# EAGLE library part VS1011E (library vlsi)
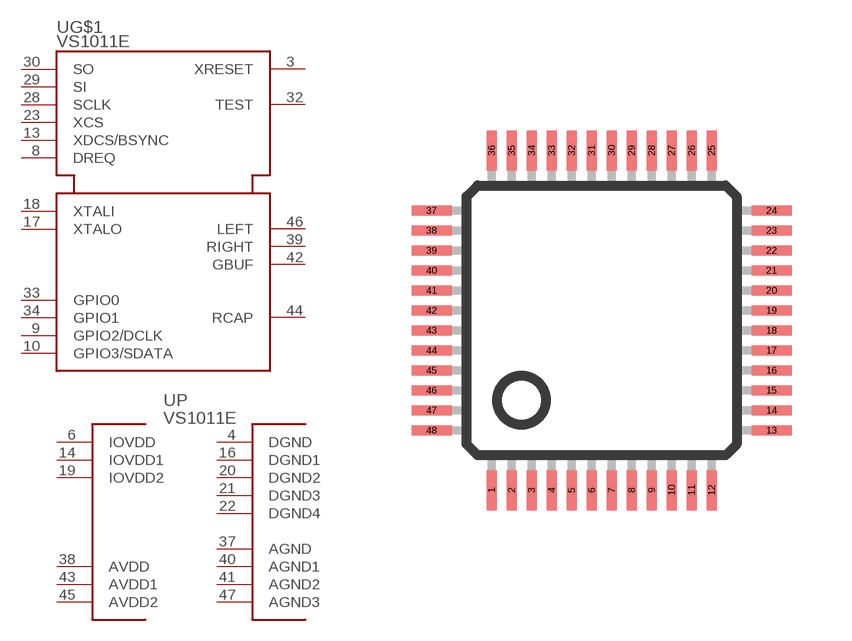
[diagram p2: symbol with the pads of LQFP48; footprint LQFP48]

Designator prefix U; gates G$1=VS1011E P=VS1011E_PWR

## VS1011E  [LQFP48]
3  G$1:XRESET  in
4  P:DGND  pwr
6  P:IOVDD  pwr
8  G$1:DREQ  out
9  G$1:GPIO2/DCLK
10  G$1:GPIO3/SDATA
13  G$1:XDCS/BSYNC  in
14  P:IOVDD1  pwr
16  P:DGND1  pwr
17  G$1:XTALO  out
18  G$1:XTALI  in
19  P:IOVDD2  pwr
20  P:DGND2  pwr
21  P:DGND3  pwr
22  P:DGND4  pwr
23  G$1:XCS  in
28  G$1:SCLK  in
29  G$1:SI  in
30  G$1:SO  out
32  G$1:TEST  in
33  G$1:GPIO0
34  G$1:GPIO1
37  P:AGND  pwr
38  P:AVDD  pwr
39  G$1:RIGHT  out
40  P:AGND1  pwr
41  P:AGND2  pwr
42  G$1:GBUF  out
43  P:AVDD1  pwr
44  G$1:RCAP
45  P:AVDD2  pwr
46  G$1:LEFT  out
47  P:AGND3  pwr

## Footprint LQFP48 (pad centres in mm)
48-pin plastic LQFP (FPT-48P-M26) www.fma.fujitsu.com/pdf/e713717.pdf
smd 0.25 x 1: 1 -2.75,-4.25; 2 -2.25,-4.25; 3 -1.75,-4.25; 4 -1.25,-4.25; 5 -0.75,-4.25; 6 -0.25,-4.25; 7 0.25,-4.25; 8 0.75,-4.25; 9 1.25,-4.25; 10 1.75,-4.25; 11 2.25,-4.25; 12 2.75,-4.25; 25 2.75,4.25; 26 2.25,4.25; 27 1.75,4.25; 28 1.25,4.25; 29 0.75,4.25; 30 0.25,4.25; 31 -0.25,4.25; 32 -0.75,4.25; 33 -1.25,4.25; 34 -1.75,4.25; 35 -2.25,4.25; 36 -2.75,4.25
smd 1 x 0.25: 13 4.25,-2.75; 14 4.25,-2.25; 15 4.25,-1.75; 16 4.25,-1.25; 17 4.25,-0.75; 18 4.25,-0.25; 19 4.25,0.25; 20 4.25,0.75; 21 4.25,1.25; 22 4.25,1.75; 23 4.25,2.25; 24 4.25,2.75; 37 -4.25,2.75; 38 -4.25,2.25; 39 -4.25,1.75; 40 -4.25,1.25; 41 -4.25,0.75; 42 -4.25,0.25; 43 -4.25,-0.25; 44 -4.25,-0.75; 45 -4.25,-1.25; 46 -4.25,-1.75; 47 -4.25,-2.25; 48 -4.25,-2.75